# Altium footprint library FootPrintLib_2.PcbLib: 173 footprints (part 9 of 11)
Each footprint in its own frame and in the unit in brackets; x right, y up, seen from the top. Pads: shape width x height; smd on the part's side, far side on the other; paste and mask are expansions set on the pad; w line width, h text height; cw(c..) or ccw(c..) is an arc to the next point about the centre after c.
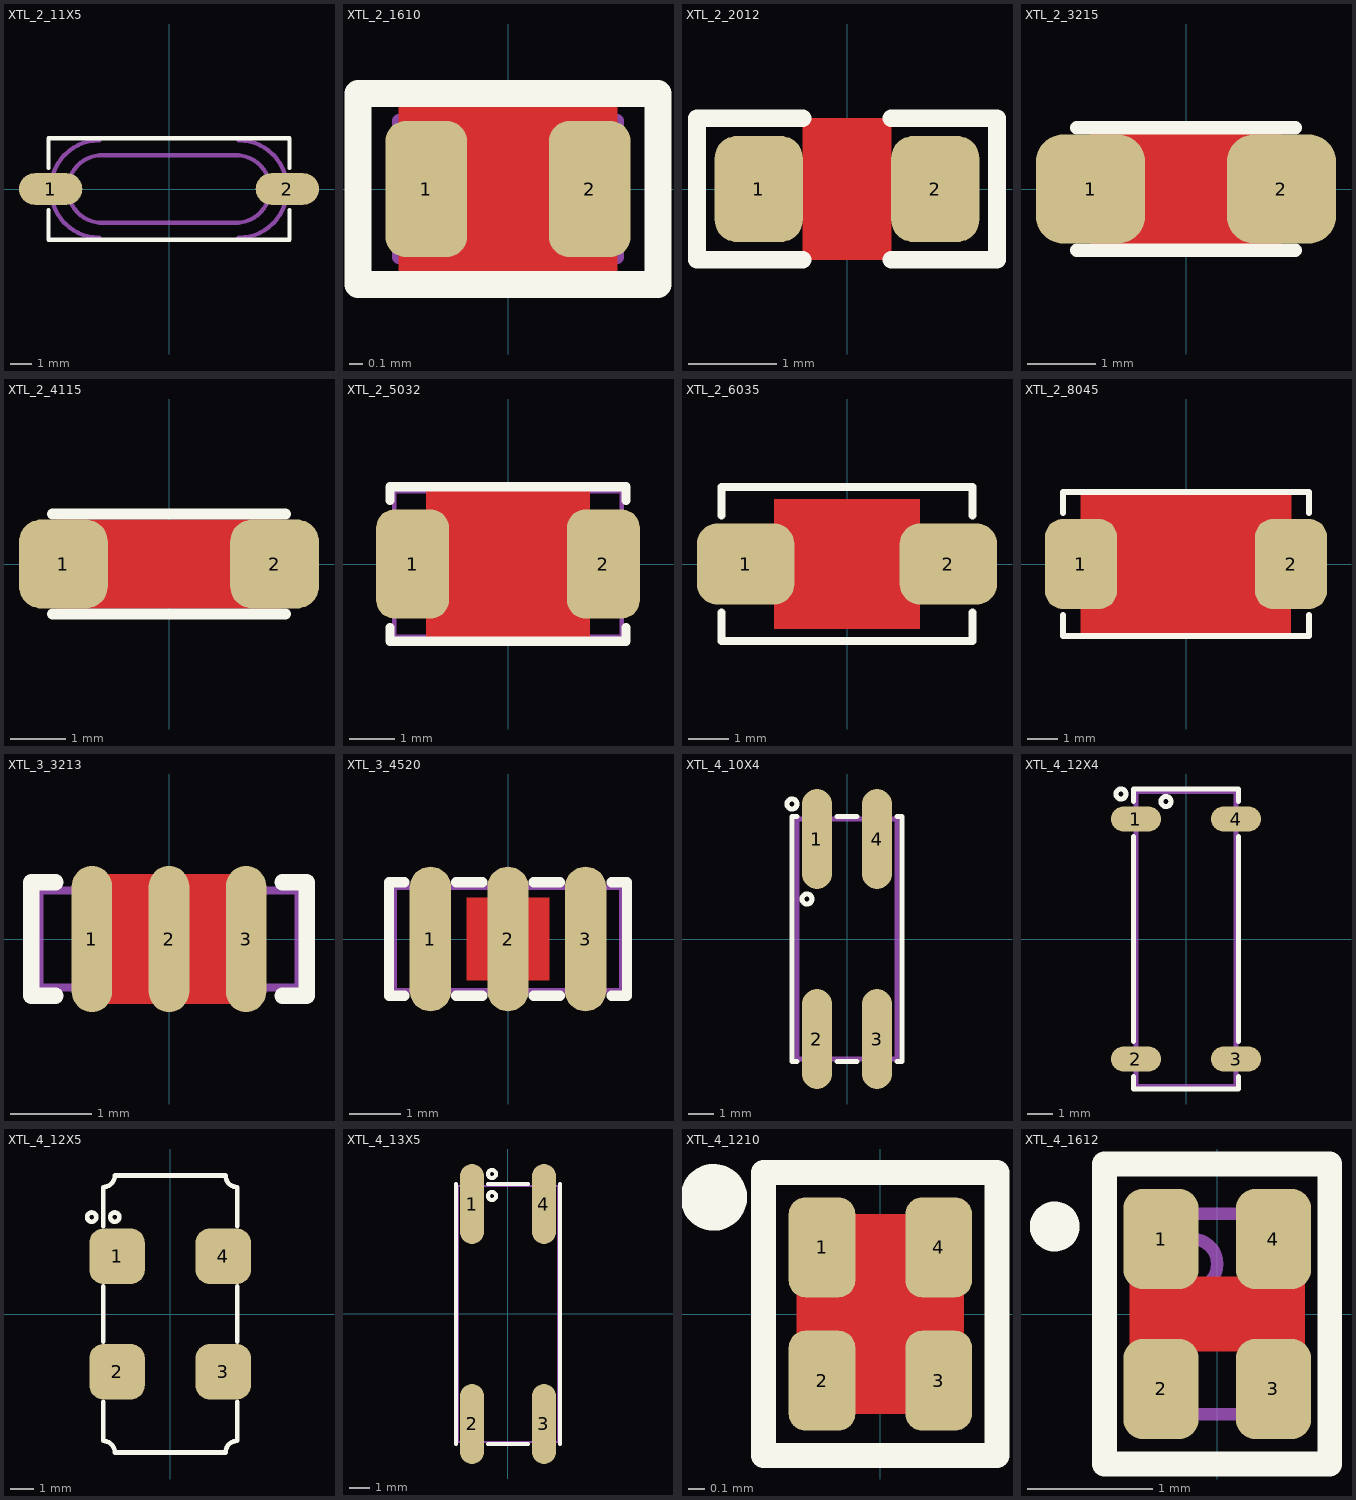
[diagram p8: the footprints below, top view; thin cyan lines are the x and y axes]

## XTL_2_11X5 [mm] "SMD crystal resonator, ABL, ABLS, HC-49, HC49 11X4.5MM"
pads (2):
  oval 3x1.5 smd: 1(-5.6,0) 2(5.6,0)
Top Overlay:
  lines w0.2: -5.7,-1 -5.7,-2.4 5.7,-2.4 5.7,-1 ; -5.7,1 -5.7,2.4 5.7,2.4 5.7,1
Mechanical 1:
  lines w0.2: -3.302,-2.3 cw(c-3.302,0) -3.302,2.3 ; -3.302,-1.6 3.302,-1.6 ; -3.302,1.6 3.302,1.6 ; -3.175,-1.6 cw(c-3.175,0) -3.175,1.6 ; 3.175,-1.6 ccw(c3.175,0) 3.175,1.6 ; 3.302,-2.3 ccw(c3.302,0) 3.302,2.3
3D body "User Library-Crystal HC49_US-SM.step": height 4.3, standoff 0, extent -6.4,-2.415 6.4,2.415

## XTL_2_1610 [mm] "Crystals 1.6 mm x 1.0 mm"
height 0.5
pads (2):
  rrect50% 0.6x1 smd mask+0.1: 1(-0.6,0) 2(0.6,0)
Top Layer:
  pour cut-out: -0.8,-0.6 0.8,-0.6 0.8,0.6 -0.8,0.6
Top Overlay:
  lines w0.2: -1.1,-0.7 -1.1,0.7 1.1,0.7 1.1,-0.7 -1.1,-0.7
Mechanical 13:
  lines w0.1: -0.8,-0.5 -0.8,0.5 0.8,0.5 0.8,-0.5 -0.8,-0.5
3D body "ABS05.STEP": height 0.5, standoff 0, extent -0.8,-0.5 0.8,0.5

## XTL_2_2012 [mm] "ABS06 2.0X1.2mm"
pads (2):
  rrect50% 1x1.2 smd mask+0.075: 1(-1,0) 2(1,0)
Top Layer:
  pour cut-out: -0.5,0.8 0.5,0.8 0.5,-0.8 -0.5,-0.8
Top Overlay:
  lines w0.2: -0.5,-0.8 -1.7,-0.8 -1.7,0.8 -0.5,0.8 ; 0.5,-0.8 1.7,-0.8 1.7,0.8 0.5,0.8
3D body "User Library-ABS06.STEP": height 0.6, standoff 0, extent -1,-0.61 1,0.61

## XTL_2_3215 [mm] "ABS07 3.2x1.5mm"
height 2
pads (2):
  rrect50% 1.6x1.6 smd mask+0.075: 1(-1.4,0) 2(1.4,0)
Top Layer:
  pour cut-out: -1.4,0.8 -1.4,-0.8 1.4,-0.8 1.4,0.8
Top Overlay:
  lines w0.2: -1.6,-0.9 1.6,-0.9 ; -1.6,0.9 1.6,0.9
3D body "User Library-ABS07.STEP": height 0.91, standoff 0, extent -1.61,-0.76 1.61,0.76

## XTL_2_4115 [mm] "ABS07 4.1x1.5mm"
height 0.9
pads (2):
  rrect50% 1.6x1.6 smd mask+0.075: 1(-1.9,0) 2(1.9,0)
Top Layer:
  pour cut-out: -2,0.8 -2,-0.8 2,-0.8 2,0.8
Top Overlay:
  lines w0.2: -2.1,-0.9 2.1,-0.9 ; -2.1,0.9 2.1,0.9
3D body "User Library-ABS09.STEP": height 0.91, standoff 0, extent -2.06,-0.76 2.06,0.76

## XTL_2_5032 [mm] "ABM3"
pads (2):
  rrect50% 1.6x2.4 smd: 1(-2.1,0) 2(2.1,0)
Top Layer:
  pour cut-out: -1.8,-1.6 1.8,-1.6 1.8,1.6 -1.8,1.6
Top Overlay:
  lines w0.2: -2.6,-1.4 -2.6,-1.7 2.6,-1.7 2.6,-1.4 ; -2.6,1.4 -2.6,1.7 2.6,1.7 2.6,1.4
Mechanical 13:
  lines w0.1: -2.5,-1.6 2.5,-1.6 2.5,1.6 -2.5,1.6 -2.5,-1.6
3D body "User Library-ABM3C.STEP": height 1.3, standoff 0, extent -2.6,-1.7 2.6,1.7

## XTL_2_6035 [mm] "ABM7 6.2X3.5mm, 6.0X3.5mm"
pads (2):
  rrect50% 2.4x2 smd: 1(-2.5,0) 2(2.5,0)
Top Layer:
  pour cut-out: -1.8,-1.6 1.8,-1.6 1.8,1.6 -1.8,1.6
Top Overlay:
  lines w0.2: -3.1,-1.2 -3.1,-1.9 3.1,-1.9 3.1,-1.2 ; -3.1,1.2 -3.1,1.9 3.1,1.9 3.1,1.2
3D body "ABM7.STEP": height 1.4, standoff 0, extent -2.997,-1.752 2.997,1.753

## XTL_2_8045 [mm] "ABM2 8.0X4.5x1.4mm"
pads (2):
  rrect50% 2.4x3 smd: 1(-3.5,0) 2(3.5,0)
Top Layer:
  pour cut-out: -3.5,-2.3 3.5,-2.3 3.5,2.3 -3.5,2.3
Top Overlay:
  lines w0.2: -4.1,-1.7 -4.1,-2.4 4.1,-2.4 4.1,-1.7 ; -4.1,1.7 -4.1,2.4 4.1,2.4 4.1,1.7
3D body "ABM2.STEP": height 1.4, standoff 0, extent -4,-2.25 4,2.25

## XTL_3_3213 [mm] "Crystal resonator CSTCE 3-lead 3.2 mm x 1.3 mm"
height 0.9
pads (3):
  oval 0.5x1.8 smd mask+0.1: 1(-0.95,0) 2(0,0) 3(0.95,0)
Top Layer:
  pour cut-out: -0.8,-0.8 0.8,-0.8 0.8,0.8 -0.8,0.8
Top Overlay:
  lines w0.2: -1.4,-0.7 -1.7,-0.7 -1.7,0.7 -1.4,0.7 ; 1.4,-0.7 1.7,-0.7 1.7,0.7 1.4,0.7
Mechanical 13:
  lines w0.1: -1.6,-0.6 1.6,-0.6 1.6,0.6 -1.6,0.6 -1.6,-0.6
3D body "CSTCE_V-1.STEP": height 1.02, standoff -0.09, extent -1.6,-0.65 1.6,0.65

## XTL_3_4520 [mm] "Crystal resonator CSTCR 3-lead 4.5 mm x 2.0 mm"
height 1.2
pads (3):
  oval 0.8x2.8 smd mask+0.1: 1(-1.5,0) 2(0,0) 3(1.5,0)
Top Layer:
  pour cut-out: -0.8,-0.8 0.8,-0.8 0.8,0.8 -0.8,0.8
Top Overlay:
  lines w0.2: -2,-1.1 -2.3,-1.1 -2.3,1.1 -2,1.1 ; -1,-1.1 -0.5,-1.1 ; -1,1.1 -0.5,1.1 ; 0.5,-1.1 1,-1.1 ; 0.5,1.1 1,1.1 ; 2,-1.1 2.3,-1.1 2.3,1.1 2,1.1
Mechanical 13:
  lines w0.1: -2.2,-1 -2.2,1 2.2,1 2.2,-1 -2.2,-1
3D body "User Library-CSTCR6M00G53-R0.step": height 1.15, standoff 0, extent -2.25,-1 2.25,1

## XTL_4_10X4 [mm] "MC-406 9.6X4mm"
height 3.6
pads (4):
  oval 1.2x4 smd: 1(-1.2,4) 2(-1.2,-4) 3(1.2,-4) 4(1.2,4)
Top Overlay:
  circle w0.2: c-1.6,1.6 r0.2
  circle w0.2: c-2.2,5.4 r0.2
  lines w0.2: -2,-4.9 -2.2,-4.9 -2.2,4.9 -2,4.9 ; -0.4,-4.9 0.4,-4.9 ; -0.4,4.9 0.4,4.9 ; 2,-4.9 2.2,-4.9 2.2,4.9 2,4.9
Mechanical 13:
  lines w0.2: -2,-4.8 2,-4.8 2,4.8 -2,4.8 -2,-4.8
3D body: height 3.6, standoff 0, extent -2,-4.8 2,4.8

## XTL_4_12X4 [mm] "MA-406 11.7X4mm"
height 3.6
pads (4):
  oval 2x1 smd: 1(-2,4.8) 2(-2,-4.8) 3(2,-4.8) 4(2,4.8)
Top Overlay:
  circle w0.2: c-2.6,5.8 r0.2
  circle w0.2: c-0.8,5.5 r0.2
  lines w0.2: -2.1,-5.5 -2.1,-6 2.1,-6 2.1,-5.5 ; -2.1,-4.1 -2.1,4.1 ; -2.1,5.5 -2.1,6 2.1,6 2.1,5.5 ; 2.1,-4.1 2.1,4.1
Mechanical 13:
  lines w0.2: -2,-5.9 2,-5.9 2,5.9 -2,5.9 -2,-5.9
3D body: height 3.6, standoff 0, extent -2,-5.9 2,5.9

## XTL_4_12X5 [mm] "ABC2, SMD crystal, 11.8X5.5mm"
pads (4):
  rrect50% 2.4x2.4 smd: 1(-2.3,2.5) 2(-2.3,-2.5) 3(2.3,-2.5) 4(2.3,2.5)
Top Overlay:
  circle w0.2: c-2.4,4.2 r0.2
  circle w0.2: c-3.4,4.2 r0.2
  lines w0.2: -2.9,-3.8 -2.9,-5.5 cw(c-2.9,-6) -2.4,-6 2.4,-6 cw(c2.9,-6) 2.9,-5.5 2.9,-3.8 ; -2.9,-1.2 -2.9,1.2 ; -2.9,3.8 -2.9,5.5 ccw(c-2.9,6) -2.4,6 2.4,6 ccw(c2.9,6) 2.9,5.5 2.9,3.8 ; 2.9,-1.2 2.9,1.2
3D body "ABC2.STEP": height 2.1, standoff 0.1, extent -2.75,-5.9 2.75,5.9

## XTL_4_13X5 [mm] "MA-506"
height 3.6
pads (4):
  oval 1.2x4 smd: 1(-1.8,5.5) 2(-1.8,-5.5) 3(1.8,-5.5) 4(1.8,5.5)
Top Overlay:
  circle w0.2: c-0.8,7 r0.2
  circle w0.2: c-0.8,5.9 r0.2
  lines w0.2: -2.6,-6.5 -2.6,6.5 ; -1,-6.5 1,-6.5 ; -1,6.5 1,6.5 ; 2.6,-6.5 2.6,6.5
Mechanical 13:
  lines w0.1: -2.5,-6.4 2.5,-6.4 2.5,6.4 -2.5,6.4 -2.5,-6.4
3D body: height 3.6, standoff 0, extent -2.5,-6.4 2.5,6.4

## XTL_4_1210 [mm] "CRYSTAL OSCILATOR 1.2X1.0mm, ABM13"
pads (4):
  rrect50% 0.4x0.6 smd mask+0.075: 1(-0.35,0.4) 2(-0.35,-0.4) 3(0.35,-0.4) 4(0.35,0.4)
Top Layer:
  pour cut-out: -0.5,-0.6 0.5,-0.6 0.5,0.6 -0.5,0.6
Top Overlay:
  circle w0.2: c-1,0.7 r0.1
  lines w0.15: -0.7,-0.85 0.7,-0.85 0.7,0.85 -0.7,0.85 -0.7,-0.85
3D body "ABM13.STEP": height 0.3, standoff 0, extent -0.5,-0.6 0.5,0.6

## XTL_4_1612 [mm] "CRYSTAL OSCILATOR 1.6X1.2mm, ABM12"
pads (4):
  rrect50% 0.6x0.8 smd mask+0.075: 1(-0.45,0.6) 2(-0.45,-0.6) 3(0.45,-0.6) 4(0.45,0.6)
Top Layer:
  pour cut-out: -0.7,0.3 -0.7,-0.3 0.7,-0.3 0.7,0.3
Top Overlay:
  circle w0.2: c-1.3,0.7 r0.1
  lines w0.2: -0.9,-1.2 -0.9,1.2 0.9,1.2 0.9,-1.2 -0.9,-1.2
Mechanical 13:
  circle w0.1: c-0.2,0.4 r0.2
  lines w0.1: -0.6,-0.8 0.6,-0.8 0.6,0.8 -0.6,0.8 -0.6,-0.8
3D body "ABM12.STEP": height 0.4, standoff 0, extent -0.6,-0.8 0.6,0.8